# Altium footprint library JST GH connector.PcbLib: 28 footprints (part 2 of 2)
Each footprint in its own frame and in the unit in brackets; x right, y up, seen from the top. Pads: shape width x height; smd on the part's side, far side on the other; paste and mask are expansions set on the pad; w line width, h text height; cw(c..) or ccw(c..) is an arc to the next point about the centre after c.
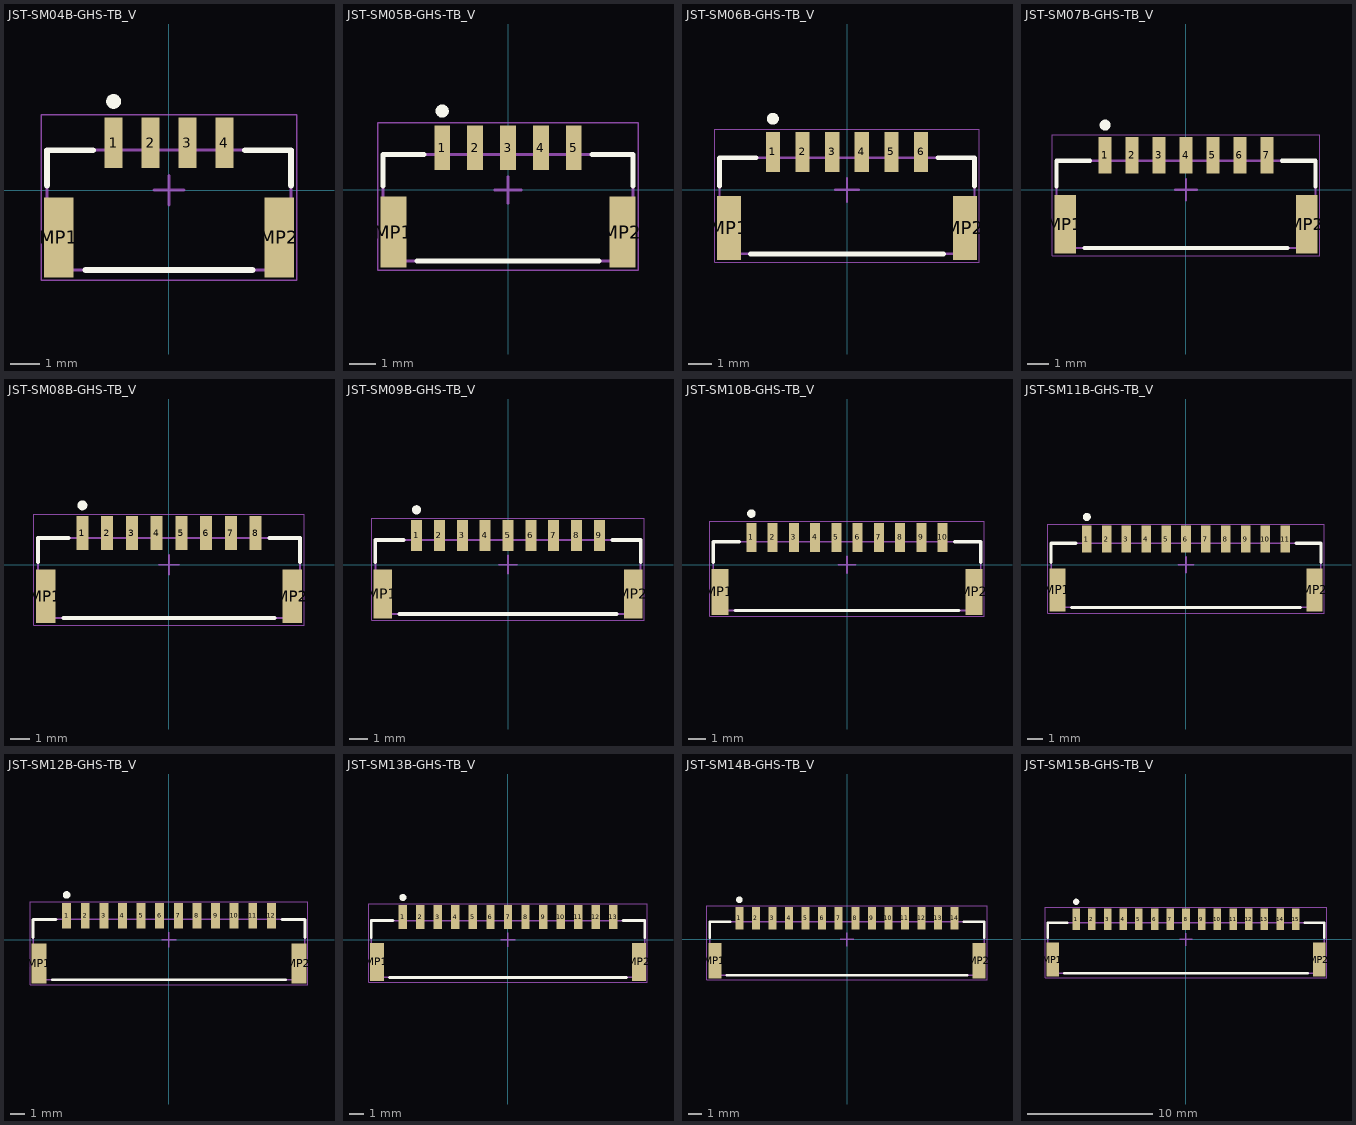
[diagram p1: the footprints below, top view; thin cyan lines are the x and y axes]

## JST-SM04B-GHS-TB_V [mm] "SMD, 4-Leads, Body 8.25x4.05mm, Pitch 1.25mm"
height 4.35
pads (6):
  rect 0.6x1.7 smd: 1(-1.875,1.6) 2(-0.625,1.6) 3(0.625,1.6) 4(1.875,1.6)
  rect 1x2.7 smd: MP1(-3.725,-1.6) MP2(3.725,-1.6)
Top Overlay:
  circle w0.25: c-1.875,3 r0.125
  lines w0.2: -4.125,0.15 -4.125,1.35 -2.575,1.35 ; -2.825,-2.7 2.825,-2.7 ; 2.575,1.35 4.125,1.35 4.125,0.15
Mechanical 13:
  lines w0.1: -4.125,-2.7 4.125,-2.7 4.125,1.35 -4.125,1.35 -4.125,-2.7
Mechanical 15:
  lines w0.05: -4.325,-3.05 4.325,-3.05 4.325,2.55 -4.325,2.55 -4.325,-3.05
  lines w0.1: -0.5,0 0.5,0 ; 0,-0.5 0,0.5
3D body "SM04B-GHS-TB.stp": height 4.35, standoff 0.05, extent -4.125,-2.7 4.125,2.15

## JST-SM05B-GHS-TB_V [mm] "SMD, 5-Leads, Body 9.50x4.05mm, Pitch 1.25mm"
height 4.35
pads (7):
  rect 0.6x1.7 smd: 1(-2.5,1.6) 2(-1.25,1.6) 3(0,1.6) 4(1.25,1.6) 5(2.5,1.6)
  rect 1x2.7 smd: MP1(-4.35,-1.6) MP2(4.35,-1.6)
Top Overlay:
  circle w0.25: c-2.5,3 r0.125
  lines w0.2: -4.75,0.15 -4.75,1.35 -3.2,1.35 ; -3.45,-2.7 3.45,-2.7 ; 3.2,1.35 4.75,1.35 4.75,0.15
Mechanical 13:
  lines w0.1: -4.75,-2.7 -4.75,1.35 4.75,1.35 4.75,-2.7 -4.75,-2.7
Mechanical 15:
  lines w0.05: -4.95,-3.05 -4.95,2.55 4.95,2.55 4.95,-3.05 -4.95,-3.05
  lines w0.1: -0.5,0 0.5,0 ; 0,-0.5 0,0.5
3D body "SM05B-GHS-TB.stp": height 4.35, standoff 0.05, extent -4.75,-2.7 4.75,2.15

## JST-SM06B-GHS-TB_V [mm] "SMD, 6-Leads, Body 10.75x4.05mm, Pitch 1.25mm"
height 4.35
pads (8):
  rect 0.6x1.7 smd: 1(-3.125,1.6) 2(-1.875,1.6) 3(-0.625,1.6) 4(0.625,1.6) 5(1.875,1.6) 6(3.125,1.6)
  rect 1x2.7 smd: MP1(-4.975,-1.6) MP2(4.975,-1.6)
Top Overlay:
  circle w0.25: c-3.125,3 r0.125
  lines w0.2: -5.375,0.15 -5.375,1.35 -3.825,1.35 ; -4.075,-2.7 4.075,-2.7 ; 3.825,1.35 5.375,1.35 5.375,0.15
Mechanical 13:
  lines w0.1: -5.375,-2.7 -5.375,1.35 5.375,1.35 5.375,-2.7 -5.375,-2.7
Mechanical 15:
  lines w0.05: -5.575,-3.05 -5.575,2.55 5.575,2.55 5.575,-3.05 -5.575,-3.05
  lines w0.1: -0.5,0 0.5,0 ; 0,-0.5 0,0.5
3D body "SM06B-GHS-TB.stp": height 4.35, standoff 0.05, extent -5.375,-2.7 5.375,2.15

## JST-SM07B-GHS-TB_V [mm] "SMD, 7-Leads, Body 12.00x4.05mm, Pitch 1.25mm"
height 4.35
pads (9):
  rect 0.6x1.7 smd: 1(-3.75,1.6) 2(-2.5,1.6) 3(-1.25,1.6) 4(0,1.6) 5(1.25,1.6) 6(2.5,1.6) 7(3.75,1.6)
  rect 1x2.7 smd: MP1(-5.6,-1.6) MP2(5.6,-1.6)
Top Overlay:
  circle w0.25: c-3.75,3 r0.125
  lines w0.2: -6,0.15 -6,1.35 -4.45,1.35 ; -4.7,-2.7 4.7,-2.7 ; 4.45,1.35 6,1.35 6,0.15
Mechanical 13:
  lines w0.1: 6,1.35 -6,1.35 -6,-2.7 6,-2.7 6,1.35
Mechanical 15:
  lines w0.05: -6.2,-3.05 -6.2,2.55 6.2,2.55 6.2,-3.05 -6.2,-3.05
  lines w0.1: -0.5,0 0.5,0 ; 0,-0.5 0,0.5
3D body "SM07B-GHS-TB.stp": height 4.35, standoff 0.05, extent -6,-2.7 6,2.15

## JST-SM08B-GHS-TB_V [mm] "SMD, 8-Leads, Body 13.25x4.05mm, Pitch 1.25mm"
height 4.35
pads (10):
  rect 0.6x1.7 smd: 1(-4.375,1.6) 2(-3.125,1.6) 3(-1.875,1.6) 4(-0.625,1.6) 5(0.625,1.6) 6(1.875,1.6) 7(3.125,1.6) 8(4.375,1.6)
  rect 1x2.7 smd: MP1(-6.225,-1.6) MP2(6.225,-1.6)
Top Overlay:
  circle w0.25: c-4.375,3 r0.125
  lines w0.2: -6.625,0.15 -6.625,1.35 -5.075,1.35 ; -5.325,-2.7 5.325,-2.7 ; 5.075,1.35 6.625,1.35 6.625,0.15
Mechanical 13:
  lines w0.1: -6.625,-2.7 6.625,-2.7 6.625,1.35 -6.625,1.35 -6.625,-2.7
Mechanical 15:
  lines w0.05: -6.825,-3.05 6.825,-3.05 6.825,2.55 -6.825,2.55 -6.825,-3.05
  lines w0.1: -0.5,0 0.5,0 ; 0,-0.5 0,0.5
3D body "SM08B-GHS-TB.stp": height 4.35, standoff 0.05, extent -6.625,-2.7 6.625,2.15

## JST-SM09B-GHS-TB_V [mm] "SMD, 9-Leads, Body 14.50x4.05mm, Pitch 1.25mm"
height 4.35
pads (11):
  rect 0.6x1.7 smd: 1(-5,1.6) 2(-3.75,1.6) 3(-2.5,1.6) 4(-1.25,1.6) 5(0,1.6) 6(1.25,1.6) 7(2.5,1.6) 8(3.75,1.6) 9(5,1.6)
  rect 1x2.7 smd: MP1(-6.85,-1.6) MP2(6.85,-1.6)
Top Overlay:
  circle w0.25: c-5,3 r0.125
  lines w0.2: -7.25,0.15 -7.25,1.35 -5.7,1.35 ; -5.95,-2.7 5.95,-2.7 ; 5.7,1.35 7.25,1.35 7.25,0.15
Mechanical 13:
  lines w0.1: -7.25,-2.7 7.25,-2.7 7.25,1.35 -7.25,1.35 -7.25,-2.7
Mechanical 15:
  lines w0.05: -7.45,-3.05 7.45,-3.05 7.45,2.55 -7.45,2.55 -7.45,-3.05
  lines w0.1: -0.5,0 0.5,0 ; 0,-0.5 0,0.5
3D body "SM09B-GHS-TB.stp": height 4.35, standoff 0.05, extent -7.25,-2.7 7.25,2.15

## JST-SM10B-GHS-TB_V [mm] "SMD, 10-Leads, Body 15.75x4.05mm, Pitch 1.25mm"
height 4.35
pads (12):
  rect 0.6x1.7 smd: 1(-5.625,1.6) 2(-4.375,1.6) 3(-3.125,1.6) 4(-1.875,1.6) 5(-0.625,1.6) 6(0.625,1.6) 7(1.875,1.6) 8(3.125,1.6) 9(4.375,1.6) 10(5.625,1.6)
  rect 1x2.7 smd: MP1(-7.475,-1.6) MP2(7.475,-1.6)
Top Overlay:
  circle w0.25: c-5.625,3 r0.125
  lines w0.2: -7.875,0.15 -7.875,1.35 -6.325,1.35 ; -6.575,-2.7 6.575,-2.7 ; 6.325,1.35 7.875,1.35 7.875,0.15
Mechanical 13:
  lines w0.1: -7.875,-2.7 7.875,-2.7 7.875,1.35 -7.875,1.35 -7.875,-2.7
Mechanical 15:
  lines w0.05: -8.075,-3.05 8.075,-3.05 8.075,2.55 -8.075,2.55 -8.075,-3.05
  lines w0.1: -0.5,0 0.5,0 ; 0,-0.5 0,0.5
3D body "SM10B-GHS-TB.stp": height 4.35, standoff 0.05, extent -7.875,-2.7 7.875,2.15

## JST-SM11B-GHS-TB_V [mm] "SMD, 11-Leads, Body 17.00x4.05mm, Pitch 1.25mm"
height 4.35
pads (13):
  rect 0.6x1.7 smd: 1(-6.25,1.6) 2(-5,1.6) 3(-3.75,1.6) 4(-2.5,1.6) 5(-1.25,1.6) 6(0,1.6) 7(1.25,1.6) 8(2.5,1.6) 9(3.75,1.6) 10(5,1.6) 11(6.25,1.6)
  rect 1x2.7 smd: MP1(-8.1,-1.6) MP2(8.1,-1.6)
Top Overlay:
  circle w0.25: c-6.25,3 r0.125
  lines w0.2: -8.5,0.15 -8.5,1.35 -6.95,1.35 ; -7.2,-2.7 7.2,-2.7 ; 6.95,1.35 8.5,1.35 8.5,0.15
Mechanical 13:
  lines w0.1: -8.5,-2.7 -8.5,1.35 8.5,1.35 8.5,-2.7 -8.5,-2.7
Mechanical 15:
  lines w0.05: -8.7,-3.05 -8.7,2.55 8.7,2.55 8.7,-3.05 -8.7,-3.05
  lines w0.1: -0.5,0 0.5,0 ; 0,-0.5 0,0.5
3D body "SM11B-GHS-TB.stp": height 4.35, standoff 0.05, extent -8.5,-2.7 8.5,2.15

## JST-SM12B-GHS-TB_V [mm] "SMD, 12-Leads, Body 18.25x4.05mm, Pitch 1.25mm"
height 4.35
pads (14):
  rect 0.6x1.7 smd: 1(-6.875,1.6) 2(-5.625,1.6) 3(-4.375,1.6) 4(-3.125,1.6) 5(-1.875,1.6) 6(-0.625,1.6) 7(0.625,1.6) 8(1.875,1.6) 9(3.125,1.6) 10(4.375,1.6) 11(5.625,1.6) 12(6.875,1.6)
  rect 1x2.7 smd: MP1(-8.725,-1.6) MP2(8.725,-1.6)
Top Overlay:
  circle w0.25: c-6.875,3 r0.125
  lines w0.2: -9.125,0.15 -9.125,1.35 -7.575,1.35 ; -7.825,-2.7 7.825,-2.7 ; 7.575,1.35 9.125,1.35 9.125,0.15
Mechanical 13:
  lines w0.1: -9.125,-2.7 9.125,-2.7 9.125,1.35 -9.125,1.35 -9.125,-2.7
Mechanical 15:
  lines w0.05: -9.325,-3.05 9.325,-3.05 9.325,2.55 -9.325,2.55 -9.325,-3.05
  lines w0.1: -0.5,0 0.5,0 ; 0,-0.5 0,0.5
3D body "SM12B-GHS-TB.stp": height 4.35, standoff 0.05, extent -9.125,-2.7 9.125,2.15

## JST-SM13B-GHS-TB_V [mm] "SMD, 13-Leads, Body 19.50x4.05mm, Pitch 1.25mm"
height 4.35
pads (15):
  rect 0.6x1.7 smd: 1(-7.5,1.6) 2(-6.25,1.6) 3(-5,1.6) 4(-3.75,1.6) 5(-2.5,1.6) 6(-1.25,1.6) 7(0,1.6) 8(1.25,1.6) 9(2.5,1.6) 10(3.75,1.6) 11(5,1.6) 12(6.25,1.6) 13(7.5,1.6)
  rect 1x2.7 smd: MP1(-9.35,-1.6) MP2(9.35,-1.6)
Top Overlay:
  circle w0.25: c-7.5,3 r0.125
  lines w0.2: -9.75,0.15 -9.75,1.35 -8.2,1.35 ; -8.45,-2.7 8.45,-2.7 ; 8.2,1.35 9.75,1.35 9.75,0.15
Mechanical 13:
  lines w0.1: -9.75,-2.7 9.75,-2.7 9.75,1.35 -9.75,1.35 -9.75,-2.7
Mechanical 15:
  lines w0.05: -9.95,-3.05 9.95,-3.05 9.95,2.55 -9.95,2.55 -9.95,-3.05
  lines w0.1: -0.5,0 0.5,0 ; 0,-0.5 0,0.5
3D body "SM13B-GHS-TB.stp": height 4.35, standoff 0.05, extent -9.75,-2.7 9.75,2.15

## JST-SM14B-GHS-TB_V [mm] "SMD, 14-Leads, Body 20.75x4.05mm, Pitch 1.25mm"
height 4.35
pads (16):
  rect 0.6x1.7 smd: 1(-8.125,1.6) 2(-6.875,1.6) 3(-5.625,1.6) 4(-4.375,1.6) 5(-3.125,1.6) 6(-1.875,1.6) 7(-0.625,1.6) 8(0.625,1.6) 9(1.875,1.6) 10(3.125,1.6) 11(4.375,1.6) 12(5.625,1.6) 13(6.875,1.6) 14(8.125,1.6)
  rect 1x2.7 smd: MP1(-9.975,-1.6) MP2(9.975,-1.6)
Top Overlay:
  circle w0.25: c-8.125,3 r0.125
  lines w0.2: -10.375,0.15 -10.375,1.35 -8.825,1.35 ; -9.075,-2.7 9.075,-2.7 ; 8.825,1.35 10.375,1.35 10.375,0.15
Mechanical 13:
  lines w0.1: -10.375,-2.7 -10.375,1.35 10.375,1.35 10.375,-2.7 -10.375,-2.7
Mechanical 15:
  lines w0.05: -10.575,-3.05 -10.575,2.55 10.575,2.55 10.575,-3.05 -10.575,-3.05
  lines w0.1: -0.5,0 0.5,0 ; 0,-0.5 0,0.5
3D body "SM14B-GHS-TB.stp": height 4.35, standoff 0.05, extent -10.375,-2.7 10.375,2.15

## JST-SM15B-GHS-TB_V [mm] "SMD, 15-Leads, Body 22.00x4.05mm, Pitch 1.25mm"
height 4.35
pads (17):
  rect 0.6x1.7 smd: 1(-8.75,1.6) 2(-7.5,1.6) 3(-6.25,1.6) 4(-5,1.6) 5(-3.75,1.6) 6(-2.5,1.6) 7(-1.25,1.6) 8(0,1.6) 9(1.25,1.6) 10(2.5,1.6) 11(3.75,1.6) 12(5,1.6) 13(6.25,1.6) 14(7.5,1.6) 15(8.75,1.6)
  rect 1x2.7 smd: MP1(-10.6,-1.6) MP2(10.6,-1.6)
Top Overlay:
  circle w0.25: c-8.75,3 r0.125
  lines w0.2: -11,0.15 -11,1.35 -9.45,1.35 ; -9.7,-2.7 9.7,-2.7 ; 9.45,1.35 11,1.35 11,0.15
Mechanical 13:
  lines w0.1: 11,1.35 -11,1.35 -11,-2.7 11,-2.7 11,1.35
Mechanical 15:
  lines w0.05: -11.2,-3.05 11.2,-3.05 11.2,2.55 -11.2,2.55 -11.2,-3.05
  lines w0.1: -0.5,0 0.5,0 ; 0,-0.5 0,0.5
3D body "SM15B-GHS-TB.stp": height 4.35, standoff 0.05, extent -11,-2.7 11,2.15